# Altium integrated library TI Microcontroller MSP430 16-bit Ultra-Low Power.IntLib: 1463 symbols (part 62 of 130)
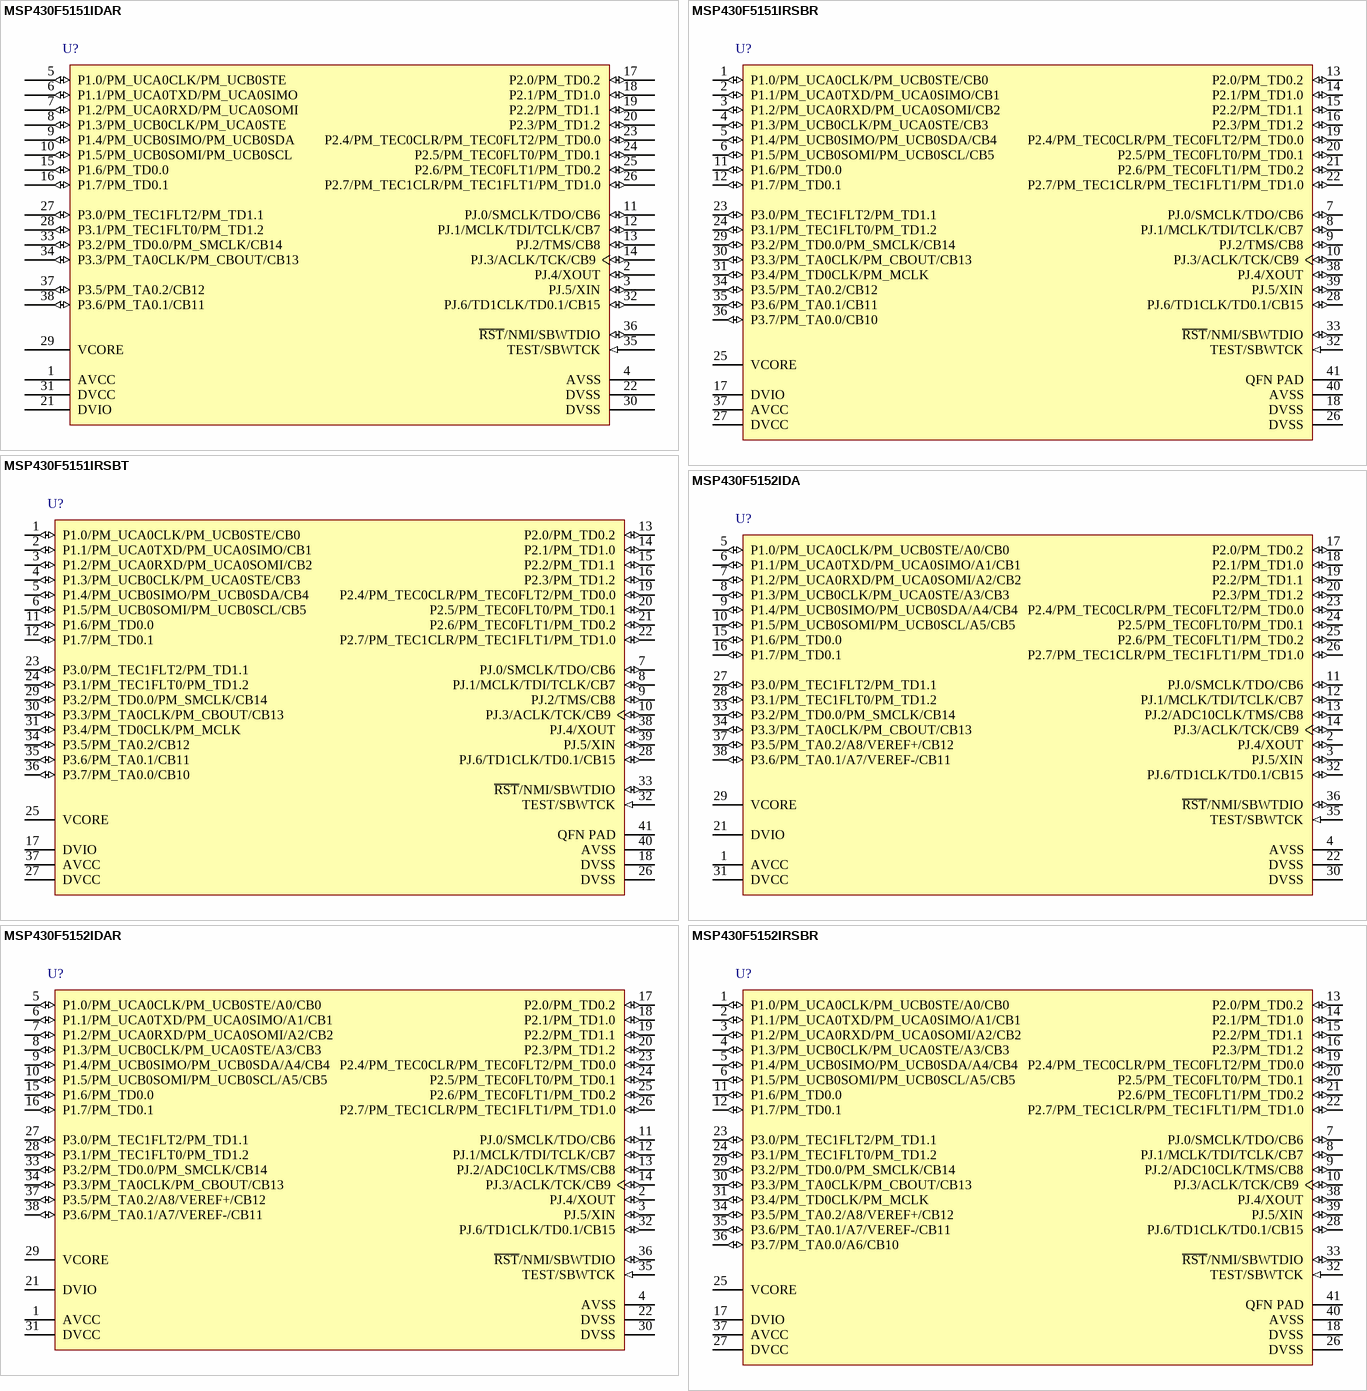
[diagram p366: symbols MSP430F5151IDAR to MSP430F5152IRSBR]

## MSP430F5151IDAR
designator U?
25 MHz Mixed Signal Microcontroller with 16 KB Flash, 2048 B SRAM and 29 GPIOs, -40 to 85 degC, 38-pin SOP (DA), Green (RoHS & no Sb/Br); Manufacturer: Texas Instruments; PartNumber: MSP430F5151IDAR; Brown Out Reset: Yes; DMA: 3; Flash(KB): 16; Frequency(MHz): 25; GPIO: 29; Multiplier: 32x32; SRAM(B): 2048; SubFamily: 5 Series; USCI_A (UART/LIN/IrDA/SPI): 1; DatasheetVersion: SLAS619G; PackageVersion: 4040066/F; PackageReference: DA38; PackageDescription: 38-Pin Plastic Small-Outline Package, Body 6.10 x 12.50 mm, Pitch 0.65 mm; Supplier 1: Digi-Key; Supplier Part Number 1: MSP430F5151IDA-ND; Supplier 2: Newark; Supplier Part Number 2: 61T5912; Supplier 3: Mouser; Supplier Part Number 3: 595-MSP430F5151IDA; Comparators: Yes; Eco-Plan: Green (RoHS & no Sb/Br); SVS: Yes; Timers - 16-bit: 3; USCI_B (I2C & SPI): 1; Watchdog: Yes; Mounting Technology: Surface Mount; Code_JEDEC: MO-153; ComponentLink1Description: Manufacturer URL; ComponentLink1URL: http://www.ti.com/; ComponentLink2Description: Datasheet; ComponentLink2URL: http://www.ti.com/general/docs/lit/getliterature.tsp?genericPartNumber=MSP430F5151&fileType=pdf; ComponentLink3Description: Package Specification; ComponentLink3URL: http://www.ti.com/lit/ml/mtss002e/mtss002e.pdf
footprint TI-DA38_N (SOP, 38-Leads, Body 12.5x6.1mm, Pitch 0.65mm, IPC Medium Density)
pins: 1 AVCC (power) "Analog power supply", 2 PJ.4/XOUT (io), 3 PJ.5/XIN (io), 4 AVSS (power) "Analog ground supply", 5 P1.0/PM_UCA0CLK/PM_UCB0STE (io), 6 P1.1/PM_UCA0TXD/PM_UCA0SIMO (io), 7 P1.2/PM_UCA0RXD/PM_UCA0SOMI (io), 8 P1.3/PM_UCB0CLK/PM_UCA0STE (io), 9 P1.4/PM_UCB0SIMO/PM_UCB0SDA (io), 10 P1.5/PM_UCB0SOMI/PM_UCB0SCL (io), 11 PJ.0/SMCLK/TDO/CB6 (io), 12 PJ.1/MCLK/TDI/TCLK/CB7 (io), 13 PJ.2/TMS/CB8 (io), 14 PJ.3/ACLK/TCK/CB9 (io), 15 P1.6/PM_TD0.0 (io), 16 P1.7/PM_TD0.1 (io), 17 P2.0/PM_TD0.2 (io), 18 P2.1/PM_TD1.0 (io), 19 P2.2/PM_TD1.1 (io), 20 P2.3/PM_TD1.2 (io), 21 DVIO (power) "5V tolerant digital I/O power supply", 22 DVSS (power) "Digital ground supply", 23 P2.4/PM_TEC0CLR/PM_TEC0FLT2/PM_TD0.0 (io), 24 P2.5/PM_TEC0FLT0/PM_TD0.1 (io), 25 P2.6/PM_TEC0FLT1/PM_TD0.2 (io), 26 P2.7/PM_TEC1CLR/PM_TEC1FLT1/PM_TD1.0 (io), 27 P3.0/PM_TEC1FLT2/PM_TD1.1 (io), 28 P3.1/PM_TEC1FLT0/PM_TD1.2 (io), 29 VCORE "Regulated core power supply", 30 DVSS "Digital ground supply", 31 DVCC (power) "Digital power supply", 32 PJ.6/TD1CLK/TD0.1/CB15 (io), 33 P3.2/PM_TD0.0/PM_SMCLK/CB14 (io), 34 P3.3/PM_TA0CLK/PM_CBOUT/CB13 (io), 35 TEST/SBWTCK (in), 36 ~{RST}/NMI/SBWTDIO (io), 37 P3.5/PM_TA0.2/CB12 (io), 38 P3.6/PM_TA0.1/CB11 (io)

## MSP430F5151IRSBR
designator U?
25 MHz Mixed Signal Microcontroller with 16 KB Flash, 2048 B SRAM and 29 GPIOs, -40 to 85 degC, 40-pin QFN (RSB), Green (RoHS & no Sb/Br); Manufacturer: Texas Instruments; PartNumber: MSP430F5151IRSBR; Brown Out Reset: Yes; DMA: 3; Flash(KB): 16; Frequency(MHz): 25; GPIO: 29; Multiplier: 32x32; SRAM(B): 2048; SubFamily: 5 Series; USCI_A (UART/LIN/IrDA/SPI): 1; DatasheetVersion: SLAS619G; PackageVersion: 4207182/C; PackageReference: RSB40-3500X3500TP; PackageDescription: 40-Pin Plastic Flat Pack, Body 5 × 5 mm, Pitch 0.4mm; Supplier 1: Digi-Key; Supplier Part Number 1: 296-29346-2-ND; Supplier 2: Digi-Key; Supplier Part Number 2: 296-29346-1-ND; Supplier 3: Digi-Key; Supplier Part Number 3: 296-29346-6-ND; Supplier 4: Mouser; Supplier Part Number 4: 595-MSP430F5151IDAR; Comparators: Yes; Eco-Plan: Green (RoHS & no Sb/Br); SVS: Yes; Timers - 16-bit: 3; USCI_B (I2C & SPI): 1; Watchdog: Yes; Mounting Technology: Surface Mount; ComponentLink1Description: Manufacturer URL; ComponentLink1URL: http://www.ti.com/; ComponentLink2Description: Datasheet; ComponentLink2URL: http://www.ti.com/general/docs/lit/getliterature.tsp?genericPartNumber=MSP430F5151&fileType=pdf; ComponentLink3Description: Package Specification; ComponentLink3URL: http://www.ti.com/lit/ml/mpqf185b/mpqf185b.pdf
footprint TI-RSB40-3500X3500TP_N (QFN, 40-Leads, Body 5x5mm, Pitch 0.4mm, Thermal Pad 3.5x3.5mm, IPC Medium Density)
pins: 1 P1.0/PM_UCA0CLK/PM_UCB0STE/CB0 (io), 2 P1.1/PM_UCA0TXD/PM_UCA0SIMO/CB1 (io), 3 P1.2/PM_UCA0RXD/PM_UCA0SOMI/CB2 (io), 4 P1.3/PM_UCB0CLK/PM_UCA0STE/CB3 (io), 5 P1.4/PM_UCB0SIMO/PM_UCB0SDA/CB4 (io), 6 P1.5/PM_UCB0SOMI/PM_UCB0SCL/CB5 (io), 7 PJ.0/SMCLK/TDO/CB6 (io), 8 PJ.1/MCLK/TDI/TCLK/CB7 (io), 9 PJ.2/TMS/CB8 (io), 10 PJ.3/ACLK/TCK/CB9 (io), 11 P1.6/PM_TD0.0 (io), 12 P1.7/PM_TD0.1 (io), 13 P2.0/PM_TD0.2 (io), 14 P2.1/PM_TD1.0 (io), 15 P2.2/PM_TD1.1 (io), 16 P2.3/PM_TD1.2 (io), 17 DVIO (power) "5V tolerant digital I/O power supply", 18 DVSS (power) "Digital ground supply", 19 P2.4/PM_TEC0CLR/PM_TEC0FLT2/PM_TD0.0 (io), 20 P2.5/PM_TEC0FLT0/PM_TD0.1 (io), 21 P2.6/PM_TEC0FLT1/PM_TD0.2 (io), 22 P2.7/PM_TEC1CLR/PM_TEC1FLT1/PM_TD1.0 (io), 23 P3.0/PM_TEC1FLT2/PM_TD1.1 (io), 24 P3.1/PM_TEC1FLT0/PM_TD1.2 (io), 25 VCORE "Regulated core power supply", 26 DVSS (power) "Digital ground supply", 27 DVCC (power) "Digital power supply", 28 PJ.6/TD1CLK/TD0.1/CB15 (io), 29 P3.2/PM_TD0.0/PM_SMCLK/CB14 (io), 30 P3.3/PM_TA0CLK/PM_CBOUT/CB13 (io), 31 P3.4/PM_TD0CLK/PM_MCLK (io), 32 TEST/SBWTCK (in), 33 ~{RST}/NMI/SBWTDIO (io), 34 P3.5/PM_TA0.2/CB12 (io), 35 P3.6/PM_TA0.1/CB11 (io), 36 P3.7/PM_TA0.0/CB10 (io), 37 AVCC (power) "Analog power supply", 38 PJ.4/XOUT (io), 39 PJ.5/XIN (io), 40 AVSS (power) "Analog ground supply", 41 QFN PAD (power) "Recommended to connect to DVSS externally"

## MSP430F5151IRSBT
designator U?
25 MHz Mixed Signal Microcontroller with 16 KB Flash, 2048 B SRAM and 29 GPIOs, -40 to 85 degC, 40-pin QFN (RSB), Green (RoHS & no Sb/Br); Manufacturer: Texas Instruments; PartNumber: MSP430F5151IRSBT; Brown Out Reset: Yes; DMA: 3; Flash(KB): 16; Frequency(MHz): 25; GPIO: 29; Multiplier: 32x32; SRAM(B): 2048; SubFamily: 5 Series; USCI_A (UART/LIN/IrDA/SPI): 1; DatasheetVersion: SLAS619G; PackageVersion: 4207182/C; PackageReference: RSB40-3500X3500TP; PackageDescription: 40-Pin Plastic Flat Pack, Body 5 × 5 mm, Pitch 0.4mm; Supplier 1: Digi-Key; Supplier Part Number 1: 296-29347-2-ND; Supplier 2: Digi-Key; Supplier Part Number 2: 296-29347-1-ND; Supplier 3: Digi-Key; Supplier Part Number 3: 296-29347-6-ND; Supplier 4: Newark; Supplier Part Number 4: 61T5914; Supplier 5: Mouser; Supplier Part Number 5: 595-MSP430F5151IRSBR; Comparators: Yes; Eco-Plan: Green (RoHS & no Sb/Br); SVS: Yes; Timers - 16-bit: 3; USCI_B (I2C & SPI): 1; Watchdog: Yes; Mounting Technology: Surface Mount; ComponentLink1Description: Manufacturer URL; ComponentLink1URL: http://www.ti.com/; ComponentLink2Description: Datasheet; ComponentLink2URL: http://www.ti.com/general/docs/lit/getliterature.tsp?genericPartNumber=MSP430F5151&fileType=pdf; ComponentLink3Description: Package Specification; ComponentLink3URL: http://www.ti.com/lit/ml/mpqf185b/mpqf185b.pdf
footprint TI-RSB40-3500X3500TP_N (QFN, 40-Leads, Body 5x5mm, Pitch 0.4mm, Thermal Pad 3.5x3.5mm, IPC Medium Density)
pins: 1 P1.0/PM_UCA0CLK/PM_UCB0STE/CB0 (io), 2 P1.1/PM_UCA0TXD/PM_UCA0SIMO/CB1 (io), 3 P1.2/PM_UCA0RXD/PM_UCA0SOMI/CB2 (io), 4 P1.3/PM_UCB0CLK/PM_UCA0STE/CB3 (io), 5 P1.4/PM_UCB0SIMO/PM_UCB0SDA/CB4 (io), 6 P1.5/PM_UCB0SOMI/PM_UCB0SCL/CB5 (io), 7 PJ.0/SMCLK/TDO/CB6 (io), 8 PJ.1/MCLK/TDI/TCLK/CB7 (io), 9 PJ.2/TMS/CB8 (io), 10 PJ.3/ACLK/TCK/CB9 (io), 11 P1.6/PM_TD0.0 (io), 12 P1.7/PM_TD0.1 (io), 13 P2.0/PM_TD0.2 (io), 14 P2.1/PM_TD1.0 (io), 15 P2.2/PM_TD1.1 (io), 16 P2.3/PM_TD1.2 (io), 17 DVIO (power) "5V tolerant digital I/O power supply", 18 DVSS (power) "Digital ground supply", 19 P2.4/PM_TEC0CLR/PM_TEC0FLT2/PM_TD0.0 (io), 20 P2.5/PM_TEC0FLT0/PM_TD0.1 (io), 21 P2.6/PM_TEC0FLT1/PM_TD0.2 (io), 22 P2.7/PM_TEC1CLR/PM_TEC1FLT1/PM_TD1.0 (io), 23 P3.0/PM_TEC1FLT2/PM_TD1.1 (io), 24 P3.1/PM_TEC1FLT0/PM_TD1.2 (io), 25 VCORE "Regulated core power supply", 26 DVSS (power) "Digital ground supply", 27 DVCC (power) "Digital power supply", 28 PJ.6/TD1CLK/TD0.1/CB15 (io), 29 P3.2/PM_TD0.0/PM_SMCLK/CB14 (io), 30 P3.3/PM_TA0CLK/PM_CBOUT/CB13 (io), 31 P3.4/PM_TD0CLK/PM_MCLK (io), 32 TEST/SBWTCK (in), 33 ~{RST}/NMI/SBWTDIO (io), 34 P3.5/PM_TA0.2/CB12 (io), 35 P3.6/PM_TA0.1/CB11 (io), 36 P3.7/PM_TA0.0/CB10 (io), 37 AVCC (power) "Analog power supply", 38 PJ.4/XOUT (io), 39 PJ.5/XIN (io), 40 AVSS (power) "Analog ground supply", 41 QFN PAD (power) "Recommended to connect to DVSS externally"

## MSP430F5152IDA
designator U?
25 MHz Mixed Signal Microcontroller with 16 KB Flash, 2048 B SRAM and 29 GPIOs, -40 to 85 degC, 38-pin SOP (DA), Green (RoHS & no Sb/Br); Manufacturer: Texas Instruments; PartNumber: MSP430F5152IDA; ADC: 10-bit SAR; ADC Channels: 8; Brown Out Reset: Yes; DMA: 3; Flash(KB): 16; Frequency(MHz): 25; GPIO: 29; Multiplier: 32x32; SRAM(B): 2048; SubFamily: 5 Series; USCI_A (UART/LIN/IrDA/SPI): 1; DatasheetVersion: SLAS619G; PackageVersion: 4040066/F; PackageReference: DA38; PackageDescription: 38-Pin Plastic Small-Outline Package, Body 6.10 x 12.50 mm, Pitch 0.65 mm; Supplier 1: Digi-Key; Supplier Part Number 1: MSP430F5151IRSBT-ND; Supplier 2: Mouser; Supplier Part Number 2: 595-MSP430F5151IRSBT; Comparators: Yes; Eco-Plan: Green (RoHS & no Sb/Br); SVS: Yes; Temp Sensor: Yes; Timers - 16-bit: 3; USCI_B (I2C & SPI): 1; Watchdog: Yes; Mounting Technology: Surface Mount; Code_JEDEC: MO-153; ComponentLink1Description: Manufacturer URL; ComponentLink1URL: http://www.ti.com/; ComponentLink2Description: Datasheet; ComponentLink2URL: http://www.ti.com/general/docs/lit/getliterature.tsp?genericPartNumber=MSP430F5152&fileType=pdf; ComponentLink3Description: Package Specification; ComponentLink3URL: http://www.ti.com/lit/ml/mtss002e/mtss002e.pdf
footprint TI-DA38_N (SOP, 38-Leads, Body 12.5x6.1mm, Pitch 0.65mm, IPC Medium Density)
pins: 1 AVCC (power) "Analog power supply", 2 PJ.4/XOUT (io), 3 PJ.5/XIN (io), 4 AVSS (power) "Analog ground supply", 5 P1.0/PM_UCA0CLK/PM_UCB0STE/A0/CB0 (io), 6 P1.1/PM_UCA0TXD/PM_UCA0SIMO/A1/CB1 (io), 7 P1.2/PM_UCA0RXD/PM_UCA0SOMI/A2/CB2 (io), 8 P1.3/PM_UCB0CLK/PM_UCA0STE/A3/CB3 (io), 9 P1.4/PM_UCB0SIMO/PM_UCB0SDA/A4/CB4 (io), 10 P1.5/PM_UCB0SOMI/PM_UCB0SCL/A5/CB5 (io), 11 PJ.0/SMCLK/TDO/CB6 (io), 12 PJ.1/MCLK/TDI/TCLK/CB7 (io), 13 PJ.2/ADC10CLK/TMS/CB8 (io), 14 PJ.3/ACLK/TCK/CB9 (io), 15 P1.6/PM_TD0.0 (io), 16 P1.7/PM_TD0.1 (io), 17 P2.0/PM_TD0.2 (io), 18 P2.1/PM_TD1.0 (io), 19 P2.2/PM_TD1.1 (io), 20 P2.3/PM_TD1.2 (io), 21 DVIO (power) "5V tolerant digital I/O power supply", 22 DVSS (power) "Digital ground supply", 23 P2.4/PM_TEC0CLR/PM_TEC0FLT2/PM_TD0.0 (io), 24 P2.5/PM_TEC0FLT0/PM_TD0.1 (io), 25 P2.6/PM_TEC0FLT1/PM_TD0.2 (io), 26 P2.7/PM_TEC1CLR/PM_TEC1FLT1/PM_TD1.0 (io), 27 P3.0/PM_TEC1FLT2/PM_TD1.1 (io), 28 P3.1/PM_TEC1FLT0/PM_TD1.2 (io), 29 VCORE "Regulated core power supply", 30 DVSS (power) "Digital ground supply", 31 DVCC (power) "Digital power supply", 32 PJ.6/TD1CLK/TD0.1/CB15 (io), 33 P3.2/PM_TD0.0/PM_SMCLK/CB14 (io), 34 P3.3/PM_TA0CLK/PM_CBOUT/CB13 (io), 35 TEST/SBWTCK (in), 36 ~{RST}/NMI/SBWTDIO (io), 37 P3.5/PM_TA0.2/A8/VEREF+/CB12 (io), 38 P3.6/PM_TA0.1/A7/VEREF-/CB11 (io)

## MSP430F5152IDAR
designator U?
25 MHz Mixed Signal Microcontroller with 16 KB Flash, 2048 B SRAM and 29 GPIOs, -40 to 85 degC, 38-pin SOP (DA), Green (RoHS & no Sb/Br); Manufacturer: Texas Instruments; PartNumber: MSP430F5152IDAR; ADC: 10-bit SAR; ADC Channels: 8; Brown Out Reset: Yes; DMA: 3; Flash(KB): 16; Frequency(MHz): 25; GPIO: 29; Multiplier: 32x32; SRAM(B): 2048; SubFamily: 5 Series; USCI_A (UART/LIN/IrDA/SPI): 1; DatasheetVersion: SLAS619G; PackageVersion: 4040066/F; PackageReference: DA38; PackageDescription: 38-Pin Plastic Small-Outline Package, Body 6.10 x 12.50 mm, Pitch 0.65 mm; Supplier 1: Digi-Key; Supplier Part Number 1: MSP430F5152IDA-ND; Supplier 2: Mouser; Supplier Part Number 2: 595-MSP430F5152IDA; Comparators: Yes; Eco-Plan: Green (RoHS & no Sb/Br); SVS: Yes; Temp Sensor: Yes; Timers - 16-bit: 3; USCI_B (I2C & SPI): 1; Watchdog: Yes; Mounting Technology: Surface Mount; Code_JEDEC: MO-153; ComponentLink1Description: Manufacturer URL; ComponentLink1URL: http://www.ti.com/; ComponentLink2Description: Datasheet; ComponentLink2URL: http://www.ti.com/general/docs/lit/getliterature.tsp?genericPartNumber=MSP430F5152&fileType=pdf; ComponentLink3Description: Package Specification; ComponentLink3URL: http://www.ti.com/lit/ml/mtss002e/mtss002e.pdf
footprint TI-DA38_N (SOP, 38-Leads, Body 12.5x6.1mm, Pitch 0.65mm, IPC Medium Density)
pins: 1 AVCC (power) "Analog power supply", 2 PJ.4/XOUT (io), 3 PJ.5/XIN (io), 4 AVSS (power) "Analog ground supply", 5 P1.0/PM_UCA0CLK/PM_UCB0STE/A0/CB0 (io), 6 P1.1/PM_UCA0TXD/PM_UCA0SIMO/A1/CB1 (io), 7 P1.2/PM_UCA0RXD/PM_UCA0SOMI/A2/CB2 (io), 8 P1.3/PM_UCB0CLK/PM_UCA0STE/A3/CB3 (io), 9 P1.4/PM_UCB0SIMO/PM_UCB0SDA/A4/CB4 (io), 10 P1.5/PM_UCB0SOMI/PM_UCB0SCL/A5/CB5 (io), 11 PJ.0/SMCLK/TDO/CB6 (io), 12 PJ.1/MCLK/TDI/TCLK/CB7 (io), 13 PJ.2/ADC10CLK/TMS/CB8 (io), 14 PJ.3/ACLK/TCK/CB9 (io), 15 P1.6/PM_TD0.0 (io), 16 P1.7/PM_TD0.1 (io), 17 P2.0/PM_TD0.2 (io), 18 P2.1/PM_TD1.0 (io), 19 P2.2/PM_TD1.1 (io), 20 P2.3/PM_TD1.2 (io), 21 DVIO (power) "5V tolerant digital I/O power supply", 22 DVSS (power) "Digital ground supply", 23 P2.4/PM_TEC0CLR/PM_TEC0FLT2/PM_TD0.0 (io), 24 P2.5/PM_TEC0FLT0/PM_TD0.1 (io), 25 P2.6/PM_TEC0FLT1/PM_TD0.2 (io), 26 P2.7/PM_TEC1CLR/PM_TEC1FLT1/PM_TD1.0 (io), 27 P3.0/PM_TEC1FLT2/PM_TD1.1 (io), 28 P3.1/PM_TEC1FLT0/PM_TD1.2 (io), 29 VCORE "Regulated core power supply", 30 DVSS (power) "Digital ground supply", 31 DVCC (power) "Digital power supply", 32 PJ.6/TD1CLK/TD0.1/CB15 (io), 33 P3.2/PM_TD0.0/PM_SMCLK/CB14 (io), 34 P3.3/PM_TA0CLK/PM_CBOUT/CB13 (io), 35 TEST/SBWTCK (in), 36 ~{RST}/NMI/SBWTDIO (io), 37 P3.5/PM_TA0.2/A8/VEREF+/CB12 (io), 38 P3.6/PM_TA0.1/A7/VEREF-/CB11 (io)

## MSP430F5152IRSBR
designator U?
25 MHz Mixed Signal Microcontroller with 16 KB Flash, 2048 B SRAM and 29 GPIOs, -40 to 85 degC, 40-pin QFN (RSB), Green (RoHS & no Sb/Br); Manufacturer: Texas Instruments; PartNumber: MSP430F5152IRSBR; ADC: 10-bit SAR; ADC Channels: 8; Brown Out Reset: Yes; DMA: 3; Flash(KB): 16; Frequency(MHz): 25; GPIO: 29; Multiplier: 32x32; SRAM(B): 2048; SubFamily: 5 Series; USCI_A (UART/LIN/IrDA/SPI): 1; DatasheetVersion: SLAS619G; PackageVersion: 4207182/C; PackageReference: RSB40-3500X3500TP; PackageDescription: 40-Pin Plastic Flat Pack, Body 5 × 5 mm, Pitch 0.4mm; Supplier 1: Digi-Key; Supplier Part Number 1: 296-29348-2-ND; Supplier 2: Digi-Key; Supplier Part Number 2: 296-29348-1-ND; Supplier 3: Digi-Key; Supplier Part Number 3: 296-29348-6-ND; Supplier 4: Mouser; Supplier Part Number 4: 595-MSP430F5152IDAR; Comparators: Yes; Eco-Plan: Green (RoHS & no Sb/Br); SVS: Yes; Temp Sensor: Yes; Timers - 16-bit: 3; USCI_B (I2C & SPI): 1; Watchdog: Yes; Mounting Technology: Surface Mount; ComponentLink1Description: Manufacturer URL; ComponentLink1URL: http://www.ti.com/; ComponentLink2Description: Datasheet; ComponentLink2URL: http://www.ti.com/general/docs/lit/getliterature.tsp?genericPartNumber=MSP430F5152&fileType=pdf; ComponentLink3Description: Package Specification; ComponentLink3URL: http://www.ti.com/lit/ml/mpqf185b/mpqf185b.pdf
footprint TI-RSB40-3500X3500TP_N (QFN, 40-Leads, Body 5x5mm, Pitch 0.4mm, Thermal Pad 3.5x3.5mm, IPC Medium Density)
pins: 1 P1.0/PM_UCA0CLK/PM_UCB0STE/A0/CB0 (io), 2 P1.1/PM_UCA0TXD/PM_UCA0SIMO/A1/CB1 (io), 3 P1.2/PM_UCA0RXD/PM_UCA0SOMI/A2/CB2 (io), 4 P1.3/PM_UCB0CLK/PM_UCA0STE/A3/CB3 (io), 5 P1.4/PM_UCB0SIMO/PM_UCB0SDA/A4/CB4 (io), 6 P1.5/PM_UCB0SOMI/PM_UCB0SCL/A5/CB5 (io), 7 PJ.0/SMCLK/TDO/CB6 (io), 8 PJ.1/MCLK/TDI/TCLK/CB7 (io), 9 PJ.2/ADC10CLK/TMS/CB8 (io), 10 PJ.3/ACLK/TCK/CB9 (io), 11 P1.6/PM_TD0.0 (io), 12 P1.7/PM_TD0.1 (io), 13 P2.0/PM_TD0.2 (io), 14 P2.1/PM_TD1.0 (io), 15 P2.2/PM_TD1.1 (io), 16 P2.3/PM_TD1.2 (io), 17 DVIO (power) "5V tolerant digital I/O power supply", 18 DVSS (power) "Digital ground supply", 19 P2.4/PM_TEC0CLR/PM_TEC0FLT2/PM_TD0.0 (io), 20 P2.5/PM_TEC0FLT0/PM_TD0.1 (io), 21 P2.6/PM_TEC0FLT1/PM_TD0.2 (io), 22 P2.7/PM_TEC1CLR/PM_TEC1FLT1/PM_TD1.0 (io), 23 P3.0/PM_TEC1FLT2/PM_TD1.1 (io), 24 P3.1/PM_TEC1FLT0/PM_TD1.2 (io), 25 VCORE "Regulated core power supply", 26 DVSS (power) "Digital ground supply", 27 DVCC (power) "Digital power supply", 28 PJ.6/TD1CLK/TD0.1/CB15 (io), 29 P3.2/PM_TD0.0/PM_SMCLK/CB14 (io), 30 P3.3/PM_TA0CLK/PM_CBOUT/CB13 (io), 31 P3.4/PM_TD0CLK/PM_MCLK (io), 32 TEST/SBWTCK (in), 33 ~{RST}/NMI/SBWTDIO (io), 34 P3.5/PM_TA0.2/A8/VEREF+/CB12 (io), 35 P3.6/PM_TA0.1/A7/VEREF-/CB11 (io), 36 P3.7/PM_TA0.0/A6/CB10 (io), 37 AVCC (power) "Analog power supply", 38 PJ.4/XOUT (io), 39 PJ.5/XIN (io), 40 AVSS (power) "Analog ground supply", 41 QFN PAD (power) "Recommended to connect to DVSS externally"

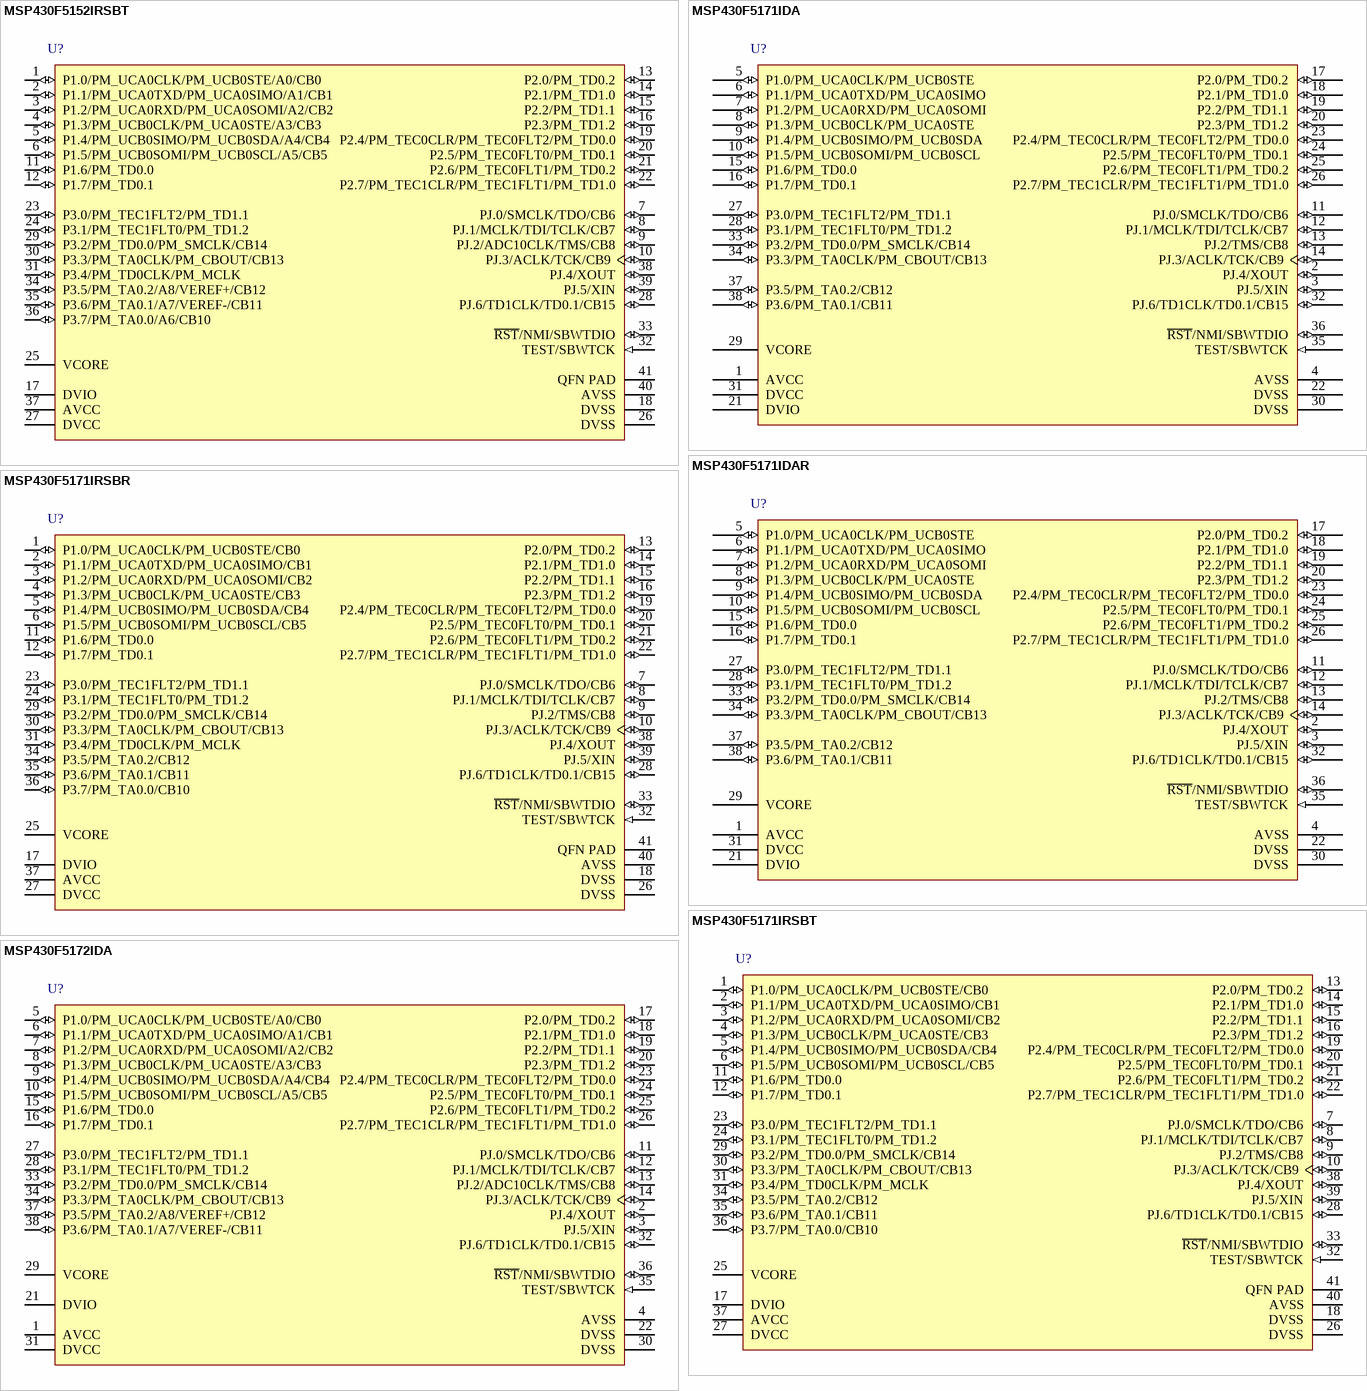
[diagram p92: symbols MSP430F5152IRSBT to MSP430F5172IDA]

## MSP430F5152IRSBT
designator U?
25 MHz Mixed Signal Microcontroller with 16 KB Flash, 2048 B SRAM and 29 GPIOs, -40 to 85 degC, 40-pin QFN (RSB), Green (RoHS & no Sb/Br); Manufacturer: Texas Instruments; PartNumber: MSP430F5152IRSBT; ADC: 10-bit SAR; ADC Channels: 8; Brown Out Reset: Yes; DMA: 3; Flash(KB): 16; Frequency(MHz): 25; GPIO: 29; Multiplier: 32x32; SRAM(B): 2048; SubFamily: 5 Series; USCI_A (UART/LIN/IrDA/SPI): 1; DatasheetVersion: SLAS619G; PackageVersion: 4207182/C; PackageReference: RSB40-3500X3500TP; PackageDescription: 40-Pin Plastic Flat Pack, Body 5 × 5 mm, Pitch 0.4mm; Supplier 1: Digi-Key; Supplier Part Number 1: 296-29349-2-ND; Supplier 2: Digi-Key; Supplier Part Number 2: 296-29349-1-ND; Supplier 3: Digi-Key; Supplier Part Number 3: 296-29349-6-ND; Supplier 4: Newark; Supplier Part Number 4: 61T5918; Supplier 5: Mouser; Supplier Part Number 5: 595-MSP430F5152IRSBR; Comparators: Yes; Eco-Plan: Green (RoHS & no Sb/Br); SVS: Yes; Temp Sensor: Yes; Timers - 16-bit: 3; USCI_B (I2C & SPI): 1; Watchdog: Yes; Mounting Technology: Surface Mount; ComponentLink1Description: Manufacturer URL; ComponentLink1URL: http://www.ti.com/; ComponentLink2Description: Datasheet; ComponentLink2URL: http://www.ti.com/general/docs/lit/getliterature.tsp?genericPartNumber=MSP430F5152&fileType=pdf; ComponentLink3Description: Package Specification; ComponentLink3URL: http://www.ti.com/lit/ml/mpqf185b/mpqf185b.pdf
footprint TI-RSB40-3500X3500TP_N (QFN, 40-Leads, Body 5x5mm, Pitch 0.4mm, Thermal Pad 3.5x3.5mm, IPC Medium Density)
pins: 1 P1.0/PM_UCA0CLK/PM_UCB0STE/A0/CB0 (io), 2 P1.1/PM_UCA0TXD/PM_UCA0SIMO/A1/CB1 (io), 3 P1.2/PM_UCA0RXD/PM_UCA0SOMI/A2/CB2 (io), 4 P1.3/PM_UCB0CLK/PM_UCA0STE/A3/CB3 (io), 5 P1.4/PM_UCB0SIMO/PM_UCB0SDA/A4/CB4 (io), 6 P1.5/PM_UCB0SOMI/PM_UCB0SCL/A5/CB5 (io), 7 PJ.0/SMCLK/TDO/CB6 (io), 8 PJ.1/MCLK/TDI/TCLK/CB7 (io), 9 PJ.2/ADC10CLK/TMS/CB8 (io), 10 PJ.3/ACLK/TCK/CB9 (io), 11 P1.6/PM_TD0.0 (io), 12 P1.7/PM_TD0.1 (io), 13 P2.0/PM_TD0.2 (io), 14 P2.1/PM_TD1.0 (io), 15 P2.2/PM_TD1.1 (io), 16 P2.3/PM_TD1.2 (io), 17 DVIO (power) "5V tolerant digital I/O power supply", 18 DVSS (power) "Digital ground supply", 19 P2.4/PM_TEC0CLR/PM_TEC0FLT2/PM_TD0.0 (io), 20 P2.5/PM_TEC0FLT0/PM_TD0.1 (io), 21 P2.6/PM_TEC0FLT1/PM_TD0.2 (io), 22 P2.7/PM_TEC1CLR/PM_TEC1FLT1/PM_TD1.0 (io), 23 P3.0/PM_TEC1FLT2/PM_TD1.1 (io), 24 P3.1/PM_TEC1FLT0/PM_TD1.2 (io), 25 VCORE "Regulated core power supply", 26 DVSS (power) "Digital ground supply", 27 DVCC (power) "Digital power supply", 28 PJ.6/TD1CLK/TD0.1/CB15 (io), 29 P3.2/PM_TD0.0/PM_SMCLK/CB14 (io), 30 P3.3/PM_TA0CLK/PM_CBOUT/CB13 (io), 31 P3.4/PM_TD0CLK/PM_MCLK (io), 32 TEST/SBWTCK (in), 33 ~{RST}/NMI/SBWTDIO (io), 34 P3.5/PM_TA0.2/A8/VEREF+/CB12 (io), 35 P3.6/PM_TA0.1/A7/VEREF-/CB11 (io), 36 P3.7/PM_TA0.0/A6/CB10 (io), 37 AVCC (power) "Analog power supply", 38 PJ.4/XOUT (io), 39 PJ.5/XIN (io), 40 AVSS (power) "Analog ground supply", 41 QFN PAD (power) "Recommended to connect to DVSS externally"